# EAGLE library part DUALNPN (library 6x6)
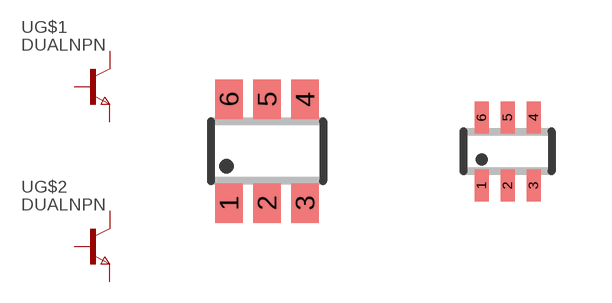
[diagram p2: symbol with the pads of SSOT6; footprints SSOT6, SC70-6L]

Designator prefix -; gates G$1=NPN G$2=NPN

## DUALNPN  [SSOT6]
1  G$1:B  pas
2  G$2:E  pas
3  G$2:B  pas
4  G$2:C  pas
5  G$1:E  pas
6  G$1:C  pas

## DUALNPNSC70-6  [SC70-6L]
1  G$1:E  pas
2  G$1:B  pas
3  G$2:C  pas
4  G$2:E  pas
5  G$2:B  pas
6  G$1:C  pas

## Footprint SSOT6 (pad centres in mm)
Super Sot-6
smd 0.69 x 0.99: 1 -0.95,-1.3; 2 0,-1.3; 3 0.95,-1.3; 4 0.95,1.3; 5 0,1.3; 6 -0.95,1.3

## Footprint SC70-6L (pad centres in mm)
smd 0.35 x 0.8: 1 -0.65,-0.85; 2 0,-0.85; 3 0.65,-0.85; 4 0.65,0.85; 5 0,0.85; 6 -0.65,0.85